# Altium schematic symbol library Michel.SchLib: 5 symbols
Pins are listed as number, name and electrical type; pins without a type are passive.

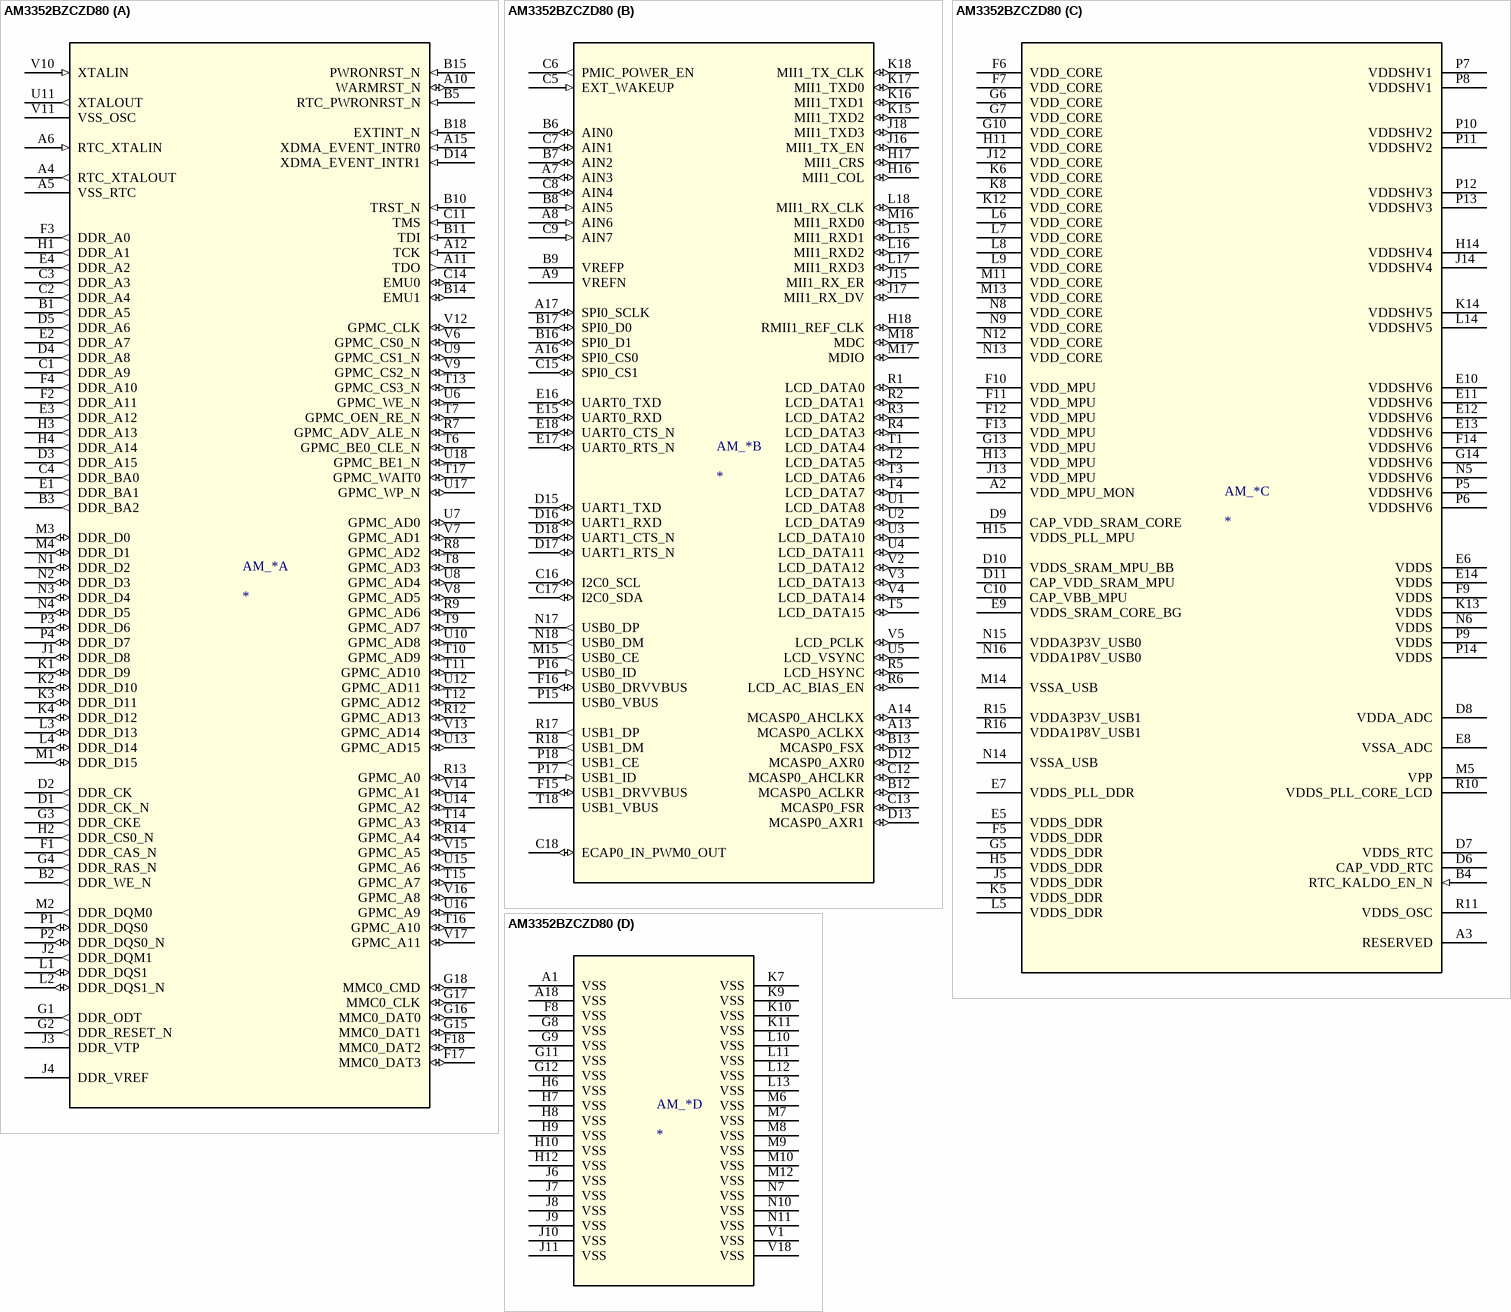
[diagram p0: symbol AM3352BZCZD80]

## AM3352BZCZD80
designator AM_*
Microprocesseur ARM; PartNumber: AM3352BZCZD80; Manufacturer: Texas Instruments; Fabricant: Texas Instrument; Fournisseur: Farnell; RefFabricant: AM3352BZCZ100; RefFournisseur: 2494119; RefDes: RefDes; TYPE: TYPE; Value: Value
footprint BGA324C80P18X18_800X1508X1508
part A pins: A4 RTC_XTALOUT (out), A5 VSS_RTC (power), A6 RTC_XTALIN (in), A10 WARMRST_N (io), A11 TDO (out), A12 TCK (in), A15 XDMA_EVENT_INTR0 (in), B1 DDR_A5 (out), B2 DDR_WE_N (out), B3 DDR_BA2 (out), B5 RTC_PWRONRST_N (in), B10 TRST_N (in), B11 TDI (in), B14 EMU1 (io), B15 PWRONRST_N (in), B18 EXTINT_N (in), C1 DDR_A9 (out), C2 DDR_A4 (out), C3 DDR_A3 (out), C4 DDR_BA0 (out), C11 TMS (in), C14 EMU0 (io), D1 DDR_CK_N (out), D2 DDR_CK (out), D3 DDR_A15 (out), D4 DDR_A8 (out), D5 DDR_A6 (out), D14 XDMA_EVENT_INTR1 (in), E1 DDR_BA1 (out), E2 DDR_A7 (out), E3 DDR_A12 (out), E4 DDR_A2 (out), F1 DDR_CAS_N (out), F2 DDR_A11 (out), F3 DDR_A0 (out), F4 DDR_A10 (out), F17 MMC0_DAT3 (io), F18 MMC0_DAT2 (io), G1 DDR_ODT (out), G2 DDR_RESET_N (out), G3 DDR_CKE (out), G4 DDR_RAS_N (out), G15 MMC0_DAT1 (io), G16 MMC0_DAT0 (io), G17 MMC0_CLK (io), G18 MMC0_CMD (io), H1 DDR_A1 (out), H2 DDR_CS0_N (out), H3 DDR_A13 (out), H4 DDR_A14 (out), J1 DDR_D8 (io), J2 DDR_DQM1 (out), J3 DDR_VTP (power), J4 DDR_VREF (power), K1 DDR_D9 (io), K2 DDR_D10 (io), K3 DDR_D11 (io), K4 DDR_D12 (io), L1 DDR_DQS1 (io), L2 DDR_DQS1_N (io), L3 DDR_D13 (io), L4 DDR_D14 (io), M1 DDR_D15 (io), M2 DDR_DQM0 (out), M3 DDR_D0 (io), M4 DDR_D1 (io), N1 DDR_D2 (io), N2 DDR_D3 (io), N3 DDR_D4 (io), N4 DDR_D5 (io), P1 DDR_DQS0 (io), P2 DDR_DQS0_N (io), P3 DDR_D6 (io), P4 DDR_D7 (io), R7 GPMC_ADV_ALE_N (io), R8 GPMC_AD2 (io), R9 GPMC_AD6 (io), R12 GPMC_AD13 (io), R13 GPMC_A0 (io), R14 GPMC_A4 (io), T6 GPMC_BE0_CLE_N (io), T7 GPMC_OEN_RE_N (io), T8 GPMC_AD3 (io), T9 GPMC_AD7 (io), T10 GPMC_AD9 (io), T11 GPMC_AD10 (io), T12 GPMC_AD12 (io), T13 GPMC_CS3_N (io), T14 GPMC_A3 (io), T15 GPMC_A7 (io), T16 GPMC_A10 (io), T17 GPMC_WAIT0 (io), U6 GPMC_WE_N (io), U7 GPMC_AD0 (io), U8 GPMC_AD4 (io), U9 GPMC_CS1_N (io), U10 GPMC_AD8 (io), U11 XTALOUT (out), U12 GPMC_AD11 (io), U13 GPMC_AD15 (io), U14 GPMC_A2 (io), U15 GPMC_A6 (io), U16 GPMC_A9 (io), U17 GPMC_WP_N (io), U18 GPMC_BE1_N (io), V6 GPMC_CS0_N (io), V7 GPMC_AD1 (io), V8 GPMC_AD5 (io), V9 GPMC_CS2_N (io), V10 XTALIN (in), V11 VSS_OSC (power), V12 GPMC_CLK (io), V13 GPMC_AD14 (io), V14 GPMC_A1 (io), V15 GPMC_A5 (io), V16 GPMC_A8 (io), V17 GPMC_A11 (io)
part B pins: A7 AIN3 (io), A8 AIN6 (in), A9 VREFN (power), A13 MCASP0_ACLKX (io), A14 MCASP0_AHCLKX (io), A16 SPI0_CS0 (io), A17 SPI0_SCLK (io), B6 AIN0 (io), B7 AIN2 (io), B8 AIN5 (in), B9 VREFP (power), B12 MCASP0_ACLKR (io), B13 MCASP0_FSX (io), B16 SPI0_D1 (io), B17 SPI0_D0 (io), C5 EXT_WAKEUP (in), C6 PMIC_POWER_EN (out), C7 AIN1 (io), C8 AIN4 (io), C9 AIN7 (in), C12 MCASP0_AHCLKR (io), C13 MCASP0_FSR (io), C15 SPI0_CS1 (io), C16 I2C0_SCL (io), C17 I2C0_SDA (io), C18 ECAP0_IN_PWM0_OUT (io), D12 MCASP0_AXR0 (io), D13 MCASP0_AXR1 (io), D15 UART1_TXD (io), D16 UART1_RXD (io), D17 UART1_RTS_N (io), D18 UART1_CTS_N (io), E15 UART0_RXD (io), E16 UART0_TXD (io), E17 UART0_RTS_N (io), E18 UART0_CTS_N (io), F15 USB1_DRVVBUS (io), F16 USB0_DRVVBUS (io), H16 MII1_COL (io), H17 MII1_CRS (io), H18 RMII1_REF_CLK (io), J15 MII1_RX_ER (io), J16 MII1_TX_EN (io), J17 MII1_RX_DV (io), J18 MII1_TXD3 (io), K15 MII1_TXD2 (io), K16 MII1_TXD1 (io), K17 MII1_TXD0 (io), K18 MII1_TX_CLK (io), L15 MII1_RXD1 (io), L16 MII1_RXD2 (io), L17 MII1_RXD3 (io), L18 MII1_RX_CLK (io), M15 USB0_CE (out), M16 MII1_RXD0 (io), M17 MDIO (io), M18 MDC (io), N17 USB0_DP (out), N18 USB0_DM (out), P15 USB0_VBUS (power), P16 USB0_ID (in), P17 USB1_ID (in), P18 USB1_CE (out), R1 LCD_DATA0 (io), R2 LCD_DATA1 (io), R3 LCD_DATA2 (io), R4 LCD_DATA3 (io), R5 LCD_HSYNC (io), R6 LCD_AC_BIAS_EN (io), R17 USB1_DP (out), R18 USB1_DM (out), T1 LCD_DATA4 (io), T2 LCD_DATA5 (io), T3 LCD_DATA6 (io), T4 LCD_DATA7 (io), T5 LCD_DATA15 (io), T18 USB1_VBUS (power), U1 LCD_DATA8 (io), U2 LCD_DATA9 (io), U3 LCD_DATA10 (io), U4 LCD_DATA11 (io), U5 LCD_VSYNC (io), V2 LCD_DATA12 (io), V3 LCD_DATA13 (io), V4 LCD_DATA14 (io), V5 LCD_PCLK (io)
part C pins: A2 VDD_MPU_MON (power), A3 RESERVED, B4 RTC_KALDO_EN_N (in), C10 CAP_VBB_MPU, D6 CAP_VDD_RTC, D7 VDDS_RTC (power), D8 VDDA_ADC (power), D9 CAP_VDD_SRAM_CORE, D10 VDDS_SRAM_MPU_BB (power), D11 CAP_VDD_SRAM_MPU, E5 VDDS_DDR (power), E6 VDDS (power), E7 VDDS_PLL_DDR (power), E8 VSSA_ADC (power), E9 VDDS_SRAM_CORE_BG (power), E10 VDDSHV6 (power), E11 VDDSHV6 (power), E12 VDDSHV6 (power), E13 VDDSHV6 (power), E14 VDDS (power), F5 VDDS_DDR (power), F6 VDD_CORE (power), F7 VDD_CORE (power), F9 VDDS (power), F10 VDD_MPU (power), F11 VDD_MPU (power), F12 VDD_MPU (power), F13 VDD_MPU (power), F14 VDDSHV6 (power), G5 VDDS_DDR (power), G6 VDD_CORE (power), G7 VDD_CORE (power), G10 VDD_CORE (power), G13 VDD_MPU (power), G14 VDDSHV6 (power), H5 VDDS_DDR (power), H11 VDD_CORE (power), H13 VDD_MPU (power), H14 VDDSHV4 (power), H15 VDDS_PLL_MPU (power), J5 VDDS_DDR (power), J12 VDD_CORE (power), J13 VDD_MPU (power), J14 VDDSHV4 (power), K5 VDDS_DDR (power), K6 VDD_CORE (power), K8 VDD_CORE (power), K12 VDD_CORE (power), K13 VDDS (power), K14 VDDSHV5 (power), L5 VDDS_DDR (power), L6 VDD_CORE (power), L7 VDD_CORE (power), L8 VDD_CORE (power), L9 VDD_CORE (power), L14 VDDSHV5 (power), M5 VPP (power), M11 VDD_CORE (power), M13 VDD_CORE (power), M14 VSSA_USB (power), N5 VDDSHV6 (power), N6 VDDS (power), N8 VDD_CORE (power), N9 VDD_CORE (power), N12 VDD_CORE (power), N13 VDD_CORE (power), N14 VSSA_USB (power), N15 VDDA3P3V_USB0 (power), N16 VDDA1P8V_USB0 (power), P5 VDDSHV6 (power), P6 VDDSHV6 (power), P7 VDDSHV1 (power), P8 VDDSHV1 (power), P9 VDDS (power), P10 VDDSHV2 (power), P11 VDDSHV2 (power), P12 VDDSHV3 (power), P13 VDDSHV3 (power), P14 VDDS (power), R10 VDDS_PLL_CORE_LCD (power), R11 VDDS_OSC (power), R15 VDDA3P3V_USB1 (power), R16 VDDA1P8V_USB1 (power)
part D pins: A1 VSS (power), A18 VSS (power), F8 VSS (power), G8 VSS (power), G9 VSS (power), G11 VSS (power), G12 VSS (power), H6 VSS (power), H7 VSS (power), H8 VSS (power), H9 VSS (power), H10 VSS (power), H12 VSS (power), J6 VSS (power), J7 VSS (power), J8 VSS (power), J9 VSS (power), J10 VSS (power), J11 VSS (power), K7 VSS (power), K9 VSS (power), K10 VSS (power), K11 VSS (power), L10 VSS (power), L11 VSS (power), L12 VSS (power), L13 VSS (power), M6 VSS (power), M7 VSS (power), M8 VSS (power), M9 VSS (power), M10 VSS (power), M12 VSS (power), N7 VSS (power), N10 VSS (power), N11 VSS (power), V1 VSS (power), V18 VSS (power)

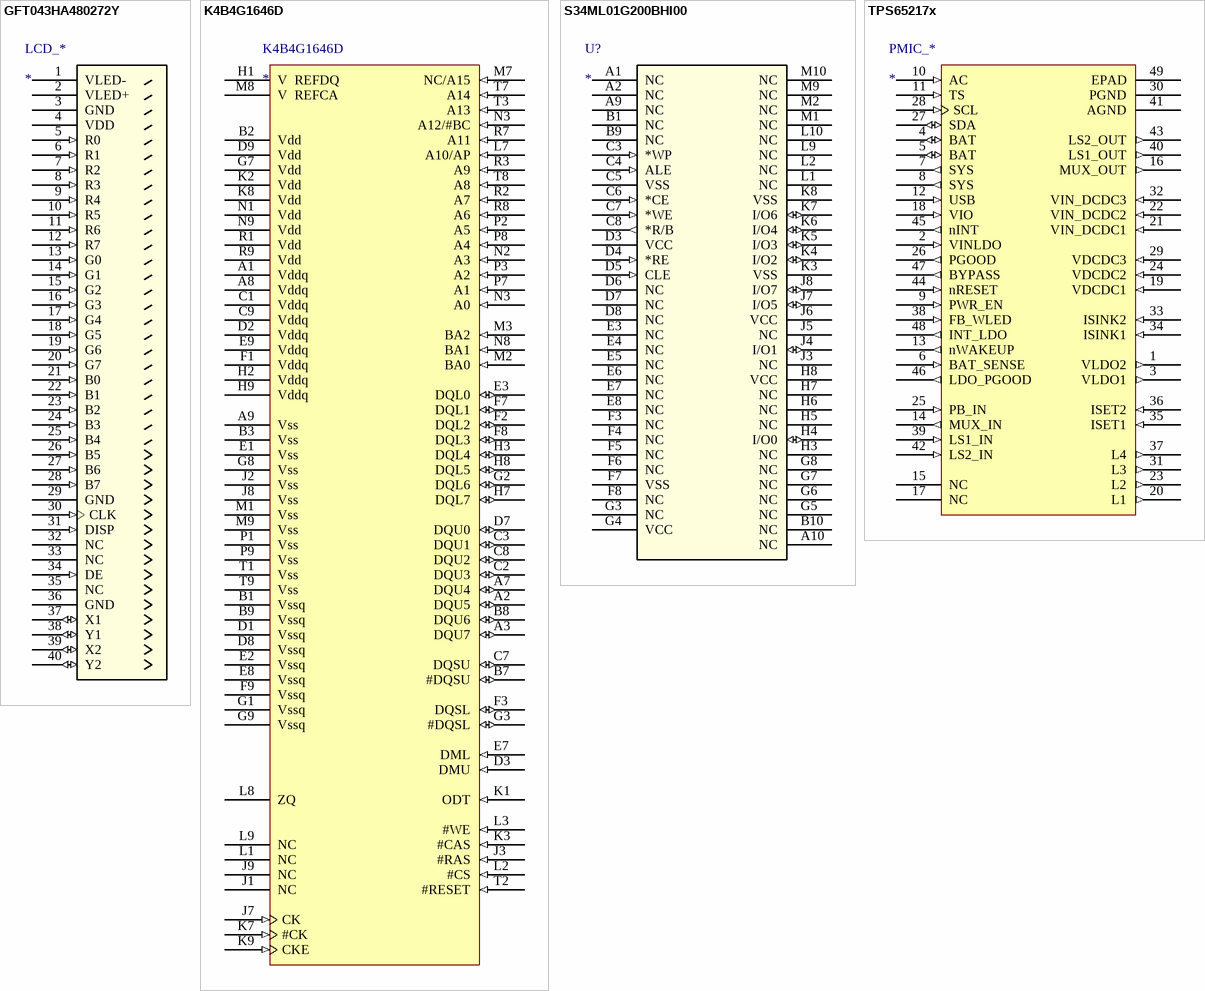
[diagram p1: symbols GFT043HA480272Y to TPS65217x]

## GFT043HA480272Y
designator LCD_*
Connecteur LCD & Touch screen; Fabricant: TE Connectivity; Fournisseur: Farnell; RefFabricant: 4-1734592-0; RefFournisseur: 1816399
pins: 1 VLED- (power) "Power for LED backlight cathode", 2 VLED+ (power) "Power for LED backlight anode", 3 GND (power) "Power ground", 4 VDD (power) "Power voltage", 5 R0 (in) "Red data (LSB)", 6 R1 (in) "Red data", 7 R2 (in) "Red data", 8 R3 (in) "Red data", 9 R4 (in) "Red data", 10 R5 (in) "Red data", 11 R6 (in) "Red data", 12 R7 (in) "Red data (MSB)", 13 G0 (in) "Green data (LSB)", 14 G1 (in) "Green data", 15 G2 (in) "Green data", 16 G3 (in) "Green data", 17 G4 (in) "Green data", 18 G5 (in) "Green data", 19 G6 (in) "Green data", 20 G7 (in) "Green data (MSB)", 21 B0 (in) "Blue data (LSB)", 22 B1 (in) "Blue data", 23 B2 (in) "Blue data", 24 B3 (in) "Blue data", 25 B4 (in) "Blue data", 26 B5 (in) "Blue data", 27 B6 (in) "Blue data", 28 B7 (in) "Blue data (MSB)", 29 GND (power) "Power ground", 30 CLK (in) "Pixel clock", 31 DISP (in) "Display on/off", 32 NC "No connection", 33 NC "No connection", 34 DE (in) "Data Enable", 35 NC "No connection", 36 GND (power) "Power ground", 37 X1 (io) "Right electrode – differential analog", 38 Y1 (io) "Bottom electrode – differential analog", 39 X2 (io) "Left electrode – differential analog", 40 Y2 (io) "Top electrode – differential analog"
1 alternate drawing of the same symbol

## K4B4G1646D
designator K4B4G1646D
Mémoire DDR3/SRAM; Fabricant: Samsung; Fournisseur: Olimex; RefFabricant: DS_K4B4G1646D; RefFournisseur: K4B4G1646D-BCK0; K4B4G1646D: *
pins: A1 Vddq (power) "DQ Power Supply: 1.5V +/- 0.075V", A2 DQU5 (io) "Data Input/ Output:   Bi-directional data bus", A3 DQU7 (io) "Data Input/ Output:   Bi-directional data bus", A7 DQU4 (io) "Data Input/ Output:   Bi-directional data bus", A8 Vddq (power) "DQ Power Supply: 1.5V +/- 0.075V", A9 Vss (power) "Ground", B1 Vssq (power) "DQ Ground", B2 Vdd "Power Supply: 1.5V +/- 0.075V", B3 Vss (power) "Ground", B7 #DQSU (io) "Data Strobe", B8 DQU6 (io) "Data Input/ Output:   Bi-directional data bus", B9 Vssq (power) "DQ Ground", C1 Vddq (power) "DQ Power Supply: 1.5V +/- 0.075V", C2 DQU3 (io) "Data Input/ Output:   Bi-directional data bus", C3 DQU1 (io) "Data Input/ Output:   Bi-directional data bus", C7 DQSU (io) "Data Strobe", C8 DQU2 (io) "Data Input/ Output:   Bi-directional data bus", C9 Vddq (power) "DQ Power Supply: 1.5V +/- 0.075V", D1 Vssq (power) "DQ Ground", D2 Vddq (power) "DQ Power Supply: 1.5V +/- 0.075V", D3 DMU (in) "Input Data Mask", D7 DQU0 (io) "Data Input/ Output:   Bi-directional data bus", D8 Vssq (power) "DQ Ground", D9 Vdd "Power Supply: 1.5V +/- 0.075V", E1 Vss (power) "Ground", E2 Vssq (power) "DQ Ground", E3 DQL0 (io) "Data Input/ Output:   Bi-directional data bus", E7 DML (in) "Input Data Mask", E8 Vssq (power) "DQ Ground", E9 Vddq (power) "DQ Power Supply: 1.5V +/- 0.075V", F1 Vddq (power) "DQ Power Supply: 1.5V +/- 0.075V", F2 DQL2 (io) "Data Input/ Output:   Bi-directional data bus", F3 DQSL (io) "Data Strobe", F7 DQL1 (io) "Data Input/ Output:   Bi-directional data bus", F8 DQL3 (io) "Data Input/ Output:   Bi-directional data bus", F9 Vssq (power) "DQ Ground", G1 Vssq (power) "DQ Ground", G2 DQL6 (io) "Data Input/ Output:   Bi-directional data bus", G3 #DQSL (io) "Data Strobe", G7 Vdd "Power Supply: 1.5V +/- 0.075V", G8 Vss (power) "Ground", G9 Vssq (power) "DQ Ground", H1 V  REFDQ "Reference voltage for DQ", H2 Vddq (power) "DQ Power Supply: 1.5V +/- 0.075V", H3 DQL4 (io) "Data Input/ Output:   Bi-directional data bus", H7 DQL7 (io) "Data Input/ Output:   Bi-directional data bus", H8 DQL5 (io) "Data Input/ Output:   Bi-directional data bus", H9 Vddq (power) "DQ Power Supply: 1.5V +/- 0.075V", J1 NC "No Connect:   No internal electrical   connection is present.", J2 Vss (power) "Ground", J3 #RAS (in) "Command Inputs", J7 CK (in) "Clock: CK and CK are differential clock inputs", J8 Vss (power) "Ground", J9 NC "No Connect:   No internal electrical   connection is present.", K1 ODT (in) "On Die Termination", K2 Vdd "Power Supply: 1.5V +/- 0.075V", K3 #CAS (in) "Command Inputs", K7 #CK (in) "Clock: CK and CK are differential clock inputs", K8 Vdd "Power Supply: 1.5V +/- 0.075V", K9 CKE (in) "Clock Enable: CKE HIGH activates, and CKE Low deactivates", L1 NC "No Connect:   No internal electrical   connection is present.", L2 #CS (in) "Chip Select:", L3 #WE (in) "Command Inputs", L7 A10/AP (in) "Autoprecharge", L8 ZQ (power) "Reference Pin for ZQ calibration", L9 NC "No Connect:   No internal electrical   connection is present.", M1 Vss (power) "Ground", M2 BA0 (in) "Bank Adress Inputs", M3 BA2 (in) "Bank Adress Inputs", M7 NC/A15 (in) "No Connect:   No internal electrical   connection is present.", M8 V  REFCA "Reference voltage for CA", M9 Vss (power) "Ground", N1 Vdd "Power Supply: 1.5V +/- 0.075V", N2 A3 (in) "Address Inputs", N3 A0 (in) "Address Inputs", N3 A12/#BC (in) "Burst Chop", N8 BA1 (in) "Bank Adress Inputs", N9 Vdd "Power Supply: 1.5V +/- 0.075V", P1 Vss (power) "Ground", P2 A5 (in) "Address Inputs", P3 A2 (in) "Address Inputs", P7 A1 (in) "Address Inputs", P8 A4 (in) "Address Inputs", P9 Vss (power) "Ground", R1 Vdd "Power Supply: 1.5V +/- 0.075V", R2 A7 (in) "Address Inputs", R3 A9 (in) "Address Inputs", R7 A11 (in) "Address Inputs", R8 A6 (in) "Address Inputs", R9 Vdd "Power Supply: 1.5V +/- 0.075V", T1 Vss (power) "Ground", T2 #RESET (in) "Active Low Asynchronous Reset", T3 A13 (in) "Address Inputs", T7 A14 (in) "Address Inputs", T8 A8 (in) "Address Inputs", T9 Vss (power) "Ground"

## S34ML01G200BHI00
designator U?
Mémoire Flash/NAND; Manufacturer_Part_Number: S34ML01G200BHI000; Vendor: Spansion; Built_By: EMA_UL_Team; C: Copyright (C) 2015 Accelerated Designs. All rights reserved; Fabricant: Cypress Semiconductor; Fournisseur: Farnell; RefFournisseur: 2646449; Value: Value; Type: Type; RefDes: RefDes; RefFabricant: S34ML01G200BHI000
footprint BGA63C80P12X10_100X1100X900
pins: A1 NC, A2 NC, A9 NC, A10 NC, B1 NC, B9 NC, B10 NC, C3 *WP (in), C4 ALE (in), C5 VSS (power), C6 *CE (in), C7 *WE (in), C8 *R/B (out), D3 VCC (power), D4 *RE (in), D5 CLE (in), D6 NC, D7 NC, D8 NC, E3 NC, E4 NC, E5 NC, E6 NC, E7 NC, E8 NC, F3 NC, F4 NC, F5 NC, F6 NC, F7 VSS (power), F8 NC, G3 NC, G4 VCC (power), G5 NC, G6 NC, G7 NC, G8 NC, H3 NC, H4 I/O0 (io), H5 NC, H6 NC, H7 NC, H8 VCC (power), J3 NC, J4 I/O1 (io), J5 NC, J6 VCC (power), J7 I/O5 (io), J8 I/O7 (io), K3 VSS (power), K4 I/O2 (io), K5 I/O3 (io), K6 I/O4 (io), K7 I/O6 (io), K8 VSS (power), L1 NC, L2 NC, L9 NC, L10 NC, M1 NC, M2 NC, M9 NC, M10 NC

## TPS65217x
designator PMIC_*
Gestion d'alimentation PMIC; Fabricant: Texas Instruments; Fournisseur: Farnell; RefFabricant: TPS65217CRSLT; RefFournisseur: 2492485
footprint QFN40P600X600X900-4849
pins: 1 VLDO2 (out) "Output voltage of LDO2", 2 VINLDO (in) "Output voltage of LDO1 and LDO2", 3 VLDO1 (out) "Output voltage of LDO1", 4 BAT (io) "Battery charger output. Connect to battery.", 5 BAT (io) "Battery charger output. Connect to battery.", 6 BAT_SENSE (in) "Battery voltage sense input, connect to BAT directly at the battery terminal.", 7 SYS (out) "System voltage pin and output of the power path. All voltage regulator sare typically powered from this output.", 8 SYS (out) "System voltage pin and output of the power path. All voltage regulator sare typically powered from this output.", 9 PWR_EN (in) "Enable input for DCDC1, DCDC2, DCDC3 converters and LDO1, LDO2, LDO3, LDO4. Pull this pin high to start the power-upsequence.", 10 AC (in) "AC adaptater input to power path. Connect to an external dc supply.", 11 TS (in) "Temperature sense input. Connect to NTC thermistor to sense battery temperature. Works with 10k and 100k thermistors. See charger section for details.", 12 USB (in) "USB voltage input to power path. Connect to external voltage from a USB port.", 13 nWAKEUP (out) "Signal to host to indicate a power on event (active-low, open-drain output)", 14 MUX_IN (out) "Input to analog multiplexer", 15 NC "Not used", 16 MUX_OUT (out) "Output in of analog multiplexer", 17 NC "Not used", 18 VIO (in) "Output-high supply for output buffers", 19 VDCDC1 (in) "DCDC1 output and feedback voltage-sense input", 20 L1 (out) "Switch pin for DCDC1. Connect to Inductor.", 21 VIN_DCDC1 (in) "Input voltage for DCDC1. Must be connected to SYSpin.", 22 VIN_DCDC2 (in) "Input voltage for DCDC2. Must be connected to SYSpin.", 23 L2 (out) "Switch pin for DCDC2. Connect to Inductor.", 24 VDCDC2 (in) "DCDC2 output and feedback voltage-sense input", 25 PB_IN (in) "Push-button monitor input.Typically connected to a momentary switch to ground(active-low).", 26 PGOOD (out) "Power-good output (push-pull output). Pulled low when any of the power rails are out of regulation. Behavior is register programmable.", 27 SDA (io) "Dataline for the I2C interface", 28 SCL (in) "Clock input for the I2C interface", 29 VDCDC3 (in) "DCDC3 output and feedback voltage-sense input", 30 PGND "Power ground. Connect to ground plane", 31 L3 (out) "Switch pin for DCDC3. Connect to Inductor.", 32 VIN_DCDC3 (in) "Input voltage for DCDC3. Must be connected to SYSpin.", 33 ISINK2 (in) "Input to the WLED current SINK2. Connect to the cathode of the WLED string. Current through SINK1 equals current through ISINK2. If only one WLED string is used, short ISINK1 and ISINK2 together.", 34 ISINK1 (in) "Input to the WLED current SINK1. Connect to the cathode of the WLED string. Current through SINK1 equals current through ISINK2. If only one WLED string is used, short ISINK1 and ISINK2 together.", 35 ISET1 (in) "Low-level WLED current set. Connect a resistor to ground to set the WLED low-current level.", 36 ISET2 (in) "High-level WLED current set. Connect a resistorto ground to set the WLED high-current level.", 37 L4 (out) "Switch pin of the WLED boost converter. Connected to Inductor.", 38 FB_WLED (in) "Feedback pin for WLED boost converter. Also connected to the Anode of the WLED strings.", 39 LS1_IN (in) "Input-- voltage pin for load switch1 or LDO3", 40 LS1_OUT (out) "Output voltage pin for load switch1 or LDO3", 41 AGND "Analog GND, connect to PGND (PowerPad)", 42 LS2_IN (in) "Input voltage pin for load switch2 or LDO4", 43 LS2_OUT (out) "Output voltage pin for load switch2 or LDO4", 44 nRESET (in) "Reset pin (active-low). Pulling this pin low causes the PMIC to shut down, and after 1s to power up in its default state.", 45 nINT (out) "Interrupt output (active-low, open-drain). Pin is pulledlow if an interrupt bit is set. The output goes high after the bit causing the interrupt in register INT has been read. The interrupt sources can be masked in register INT, so no interrupt is generated when the corresponding interrupt bit is set.", 46 LDO_PGOOD (out) "LDO power good (LDO1 and LDO2 only, push-pull output). Pulled low when either LDO1 or LDO2 is out of regulation.", 47 BYPASS (out) "Internal bias voltage (2.25V). It is not recommendedto connectany external load to this pin.", 48 INT_LDO (out) "Internal bias voltage (2.3 V). It is not recommended to connect any external load to this pin.", 49 EPAD "Thermal pad"